# Altium schematic symbol library MCP601RT-I-OT.Schlib: 1 symbol
Pins are listed as number, name and electrical type; pins without a type are passive.

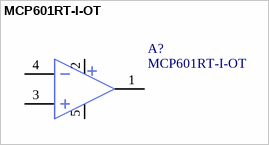
[diagram p0: symbol MCP601RT-I-OT]

## MCP601RT-I-OT
designator A?
pins: 1 OUT2, 2 VDD (power), 3 IN+2, 4 IN-2, 5 GND